# EAGLE library part MMA845X_NEW (library custom)
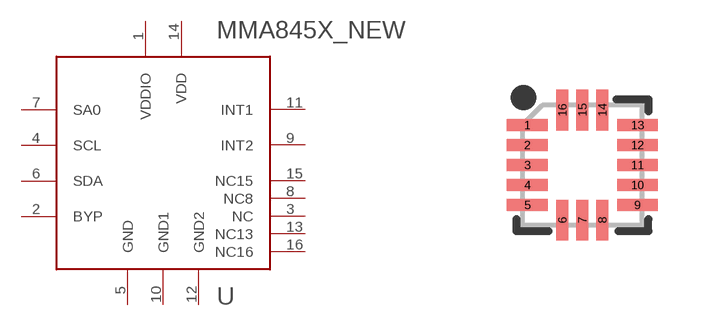
[diagram p15: symbol with the pads of QFN16_0P5_3X3; footprint QFN16_0P5_3X3]

Designator prefix U

## MMA845X_NEW  [QFN16_0P5_3X3]
1  VDDIO  pwr
2  BYP  pas
3  NC  nc
4  SCL
5  GND  pwr
6  SDA
7  SA0  in
8  NC8  nc
9  INT2  out
10  GND1  pwr
11  INT1  out
12  GND2  pwr
13  NC13  nc
14  VDD  pwr
15  NC15  nc
16  NC16  nc

## Footprint QFN16_0P5_3X3 (pad centres in mm)
smd 1.016 x 0.305: 1 -1.377,1; 2 -1.377,0.5; 3 -1.377,0; 4 -1.377,-0.5; 5 -1.377,-1; 9 1.377,-1; 10 1.377,-0.5; 11 1.377,0; 12 1.377,0.5; 13 1.377,1
smd 0.305 x 1.016: 6 -0.5,-1.377; 7 0,-1.377; 8 0.5,-1.377; 14 0.5,1.377; 15 0,1.377; 16 -0.5,1.377